# EAGLE library part AGN210 (library Panasonic Relay)
GN - 2 Form C - 1 coil latching - PC board terminal Data sheet <https://www.panasonic-electric-works.com/eu/download.htm?id=55831> Parameters Max. switching voltage: 110V DC, 125V AC Max. switching current: 1A Operational function: 1 coil latching Contact arrangement: 2 CO Applications Telephone switchboard Telecommunication equipment Security equipment Test and measurement equipment electronic consumer and audio visual equipment Options Also available as single side stable version. Furthermore there are standard (AGN200XX) or high sensitivity (AGN260XX) single side stable versions.
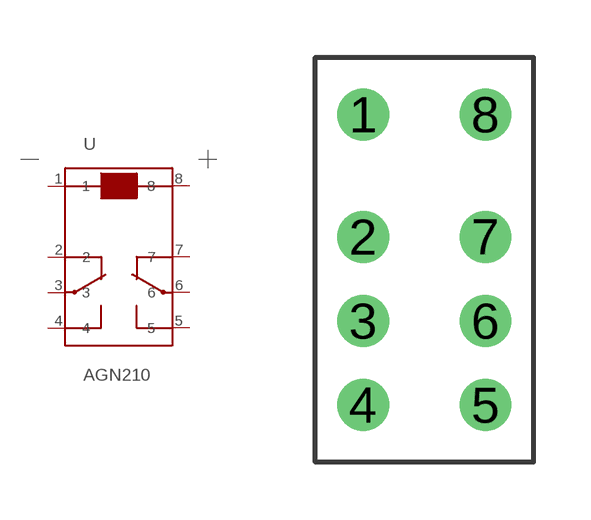
[diagram p16: symbol with the pads of GN_SSS/1CLT_PCB; footprint GN_SSS/1CLT_PCB]

Designator prefix -

## AGN21003 (U_COIL: 3V DC), AGN21006 (U_COIL: 6V DC), AGN21009 (U_COIL: 9V DC), AGN21012 (U_COIL: 12V DC), AGN2101H (U_COIL: 1.5V DC), AGN21024 (U_COIL: 24V DC), AGN2104H (U_COIL: 4.5V DC)  [GN_SSS/1CLT_PCB]
1  1
2  2
3  3
4  4
5  5
6  6
7  7
8  8

## Footprint GN_SSS/1CLT_PCB (pad centres in mm)
drill 0.85: 1 -1.6,3.8; 2 -1.6,0.6; 3 -1.6,-1.6; 4 -1.6,-3.8; 5 1.6,-3.8; 6 1.6,-1.6; 7 1.6,0.6; 8 1.6,3.8